# Altium footprint library SMD-RCD 0607.PcbLib: 104 footprints (part 3 of 7)
Each footprint in its own frame and in the unit in brackets; x right, y up, seen from the top. Pads: shape width x height; smd on the part's side, far side on the other; paste and mask are expansions set on the pad; w line width, h text height; cw(c..) or ccw(c..) is an arc to the next point about the centre after c.
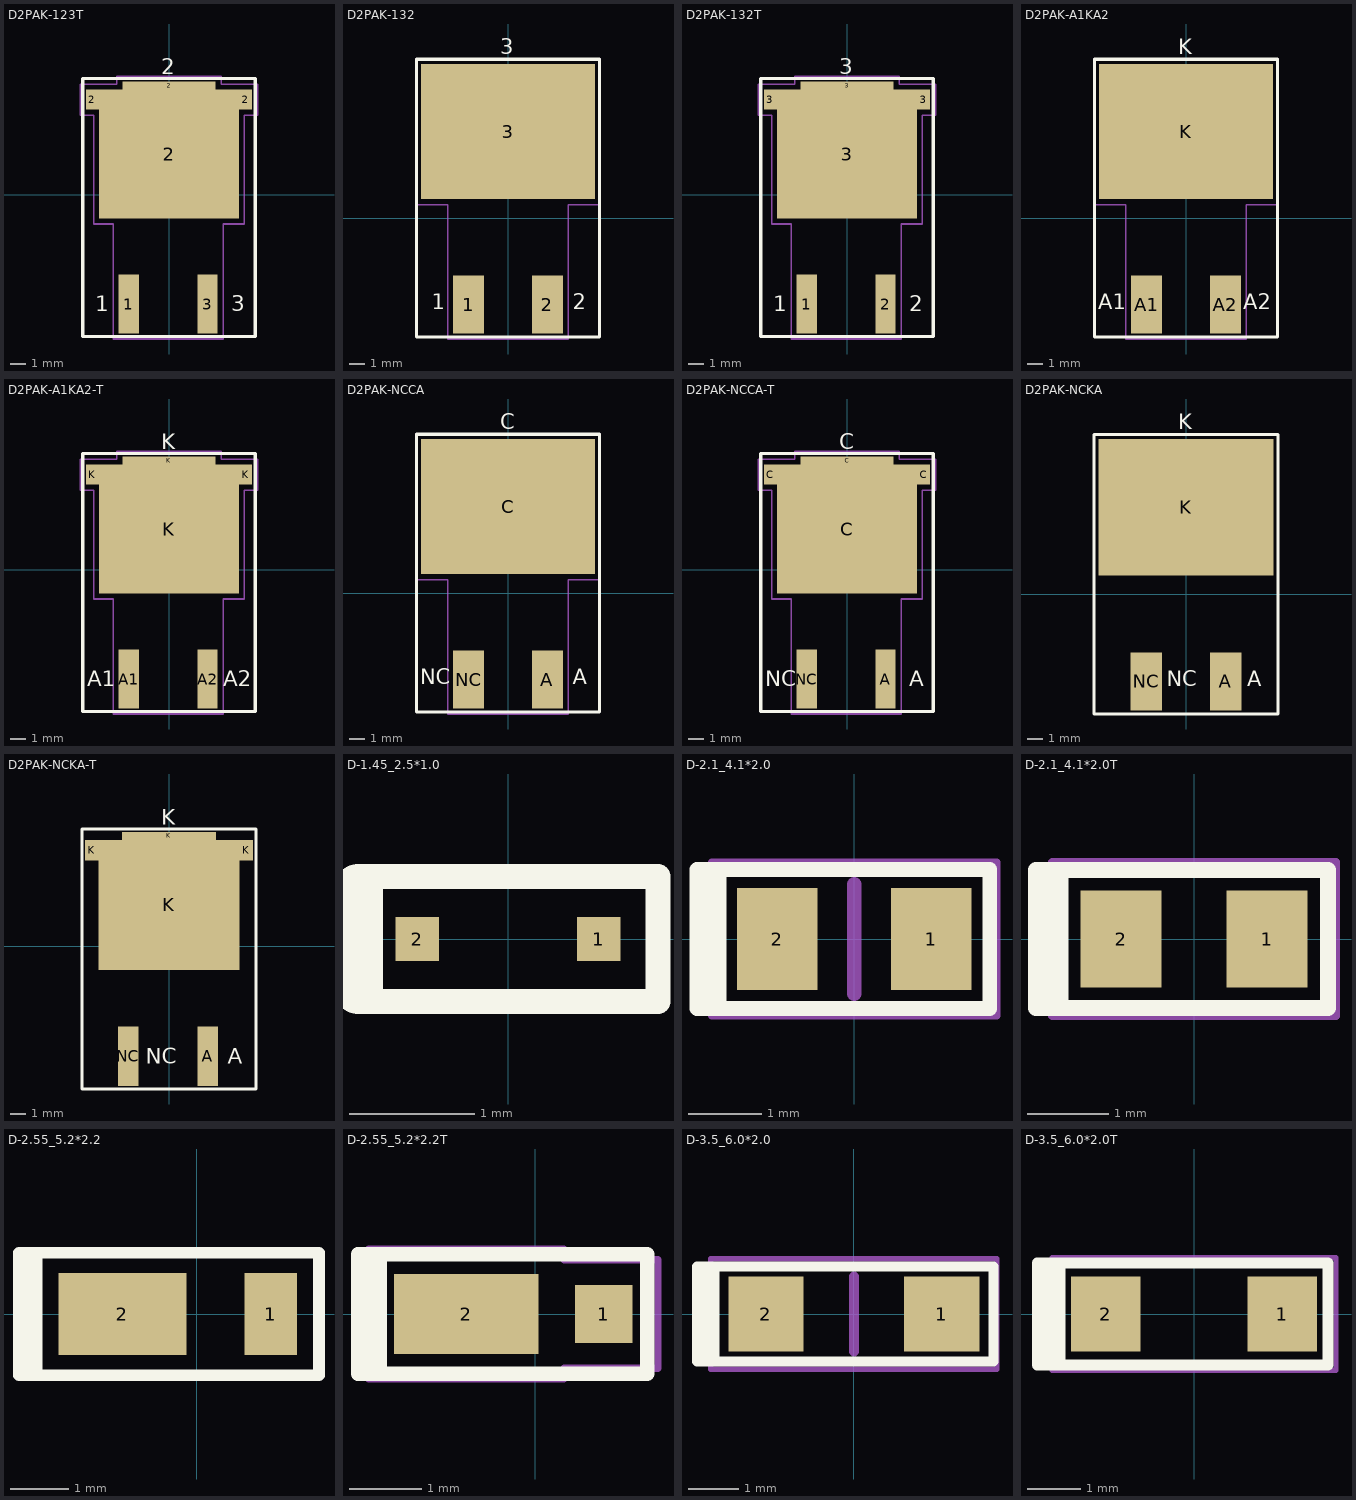
[diagram p2: the footprints below, top view; thin cyan lines are the x and y axes]

## D2PAK-123T [mm]
height 4.83
pads (6):
  rect 1.3x3.8 smd: 1(-2.595,-7.025) 3(2.485,-7.025)
  rect 0.85x1.3 smd: 2(-4.925,6.125) 2(4.925,6.125)
  rect 9x8.3 smd: 2(0,2.625)
  rect 6x0.5 smd: 2(0,7.025)
Top Overlay:
  lines w0.2: -5.55,-9.125 5.55,-9.125 5.55,7.475 -5.55,7.475 -5.55,-9.125
  text "3" at 4,-7.5 h1
  text "1" at -4.75,-7.5 h1
  text "2" at -0.5,7.75 h1
Mechanical 15:
  lines w0.1: -5.7,5.125 -5.7,7.125 -3.35,7.125 -3.35,7.625 3.35,7.625 3.35,7.125 5.7,7.125 5.7,5.125 4.85,5.125 4.85,-1.875 3.485,-1.875 3.485,-9.275 -3.595,-9.275 -3.595,-1.875 -4.85,-1.875 -4.85,5.125 -5.7,5.125

## D2PAK-132 [mm] "CSD10060G"
height 4.83
pads (3):
  rect 2.03x3.81 smd: 1(-2.595,-5.687) 2(2.595,-5.687)
  rect 11.43x8.89 smd: 3(0,5.687)
Top Overlay:
  lines w0.2: -6,-7.812 6,-7.812 6,10.438 -6,10.438 -6,-7.812
  text "2" at 4.25,-6 h1
  text "1" at -5,-6 h1
  text "3" at -0.508,10.767 h1
Mechanical 16:
  lines w0.1: -6.065,0.893 -3.96,0.893 -3.96,-7.943 3.96,-7.943 3.96,0.893 6.065,0.893 6.065,10.483 -6.065,10.483 -6.065,0.893

## D2PAK-132T [mm] "CSD10060G"
height 4.83
pads (6):
  rect 1.3x3.8 smd: 1(-2.595,-7.025) 2(2.485,-7.025)
  rect 0.85x1.3 smd: 3(-4.925,6.125) 3(4.925,6.125)
  rect 9x8.3 smd: 3(0,2.625)
  rect 6x0.5 smd: 3(0,7.025)
Top Overlay:
  lines w0.2: -5.55,-9.125 -5.55,7.475 5.55,7.475 5.55,-9.125 -5.55,-9.125
  text "3" at -0.5,7.75 h1
  text "1" at -4.75,-7.5 h1
  text "2" at 4,-7.5 h1
Mechanical 15:
  lines w0.1: -5.7,5.125 -4.85,5.125 -4.85,-1.875 -3.595,-1.875 -3.595,-9.275 3.485,-9.275 3.485,-1.875 4.85,-1.875 4.85,5.125 5.7,5.125 5.7,7.125 3.35,7.125 3.35,7.625 -3.35,7.625 -3.35,7.125 -5.7,7.125 -5.7,5.125

## D2PAK-A1KA2 [mm]
height 4.83
pads (3):
  rect 2.03x3.81 smd: A1(-2.595,-5.687) A2(2.595,-5.687)
  rect 11.43x8.89 smd: K(0,5.687)
Top Overlay:
  lines w0.2: -6,-7.812 -6,10.438 6,10.438 6,-7.812 -6,-7.812
  text "K" at -0.508,10.767 h1
  text "A1" at -5.75,-6 h1
  text "A2" at 3.75,-6 h1
Mechanical 16:
  lines w0.1: -6.065,0.893 -6.065,10.483 6.065,10.483 6.065,0.893 3.96,0.893 3.96,-7.943 -3.96,-7.943 -3.96,0.893 -6.065,0.893

## D2PAK-A1KA2-T [mm]
height 4.83
pads (6):
  rect 1.3x3.8 smd: A1(-2.595,-7.025) A2(2.485,-7.025)
  rect 0.85x1.3 smd: K(-4.925,6.125) K(4.925,6.125)
  rect 9x8.3 smd: K(0,2.625)
  rect 6x0.5 smd: K(0,7.025)
Top Overlay:
  lines w0.2: -5.55,-9.125 -5.55,7.475 5.55,7.475 5.55,-9.125 -5.55,-9.125
  text "K" at -0.5,7.75 h1
  text "A1" at -5.25,-7.5 h1
  text "A2" at 3.5,-7.5 h1
Mechanical 15:
  lines w0.1: -5.7,5.125 -4.85,5.125 -4.85,-1.875 -3.595,-1.875 -3.595,-9.275 3.485,-9.275 3.485,-1.875 4.85,-1.875 4.85,5.125 5.7,5.125 5.7,7.125 3.35,7.125 3.35,7.625 -3.35,7.625 -3.35,7.125 -5.7,7.125 -5.7,5.125

## D2PAK-NCCA [mm] "­ìD2PAK-CA"
height 4.83
pads (3):
  rect 2.03x3.81 smd: A(2.595,-5.687) NC(-2.595,-5.687)
  rect 11.43x8.89 smd: C(0,5.687)
Top Overlay:
  lines w0.2: -6,-7.812 6,-7.812 6,10.438 -6,10.438 -6,-7.812
  text "A" at 4.25,-6 h1
  text "NC" at -5.75,-6 h1
  text "C" at -0.508,10.767 h1
Mechanical 16:
  lines w0.1: -6.065,0.893 -3.96,0.893 -3.96,-7.943 3.96,-7.943 3.96,0.893 6.065,0.893 6.065,10.483 -6.065,10.483 -6.065,0.893

## D2PAK-NCCA-T [mm]
height 4.83
pads (6):
  rect 1.3x3.8 smd: A(2.485,-7.025) NC(-2.595,-7.025)
  rect 0.85x1.3 smd: C(-4.925,6.125) C(4.925,6.125)
  rect 9x8.3 smd: C(0,2.625)
  rect 6x0.5 smd: C(0,7.025)
Top Overlay:
  lines w0.2: -5.55,-9.125 5.55,-9.125 5.55,7.475 -5.55,7.475 -5.55,-9.125
  text "A" at 4,-7.5 h1
  text "NC" at -5.25,-7.5 h1
  text "C" at -0.5,7.75 h1
Mechanical 15:
  lines w0.1: -5.7,5.125 -5.7,7.125 -3.35,7.125 -3.35,7.625 3.35,7.625 3.35,7.125 5.7,7.125 5.7,5.125 4.85,5.125 4.85,-1.875 3.485,-1.875 3.485,-9.275 -3.595,-9.275 -3.595,-1.875 -4.85,-1.875 -4.85,5.125 -5.7,5.125

## D2PAK-NCKA [mm]
height 4.83
pads (3):
  rect 2.03x3.81 smd: A(2.595,-5.687) NC(-2.595,-5.687)
  rect 11.43x8.89 smd: K(0,5.688)
Top Overlay:
  lines w0.2: -6,-7.812 -6,10.438 6,10.438 6,-7.812 -6,-7.812
  text "K" at -0.508,10.767 h1
  text "NC" at -1.25,-6 h1
  text "A" at 4,-6 h1

## D2PAK-NCKA-T [mm]
height 4.83
pads (6):
  rect 1.3x3.8 smd: A(2.485,-7.025) NC(-2.595,-7.025)
  rect 0.85x1.3 smd: K(-4.925,6.125) K(4.925,6.125)
  rect 9x8.3 smd: K(0,2.625)
  rect 6x0.5 smd: K(0,7.025)
Top Overlay:
  lines w0.2: -5.55,-9.125 -5.55,7.475 5.55,7.475 5.55,-9.125 -5.55,-9.125
  text "K" at -0.5,7.75 h1
  text "NC" at -1.5,-7.5 h1
  text "A" at 3.75,-7.5 h1

## D-1.45_2.5*1.0 [mm]
height 0.7
pads (2):
  rect 0.35x0.35 smd: 1(0.725,0) 2(-0.725,0)
Top Overlay:
  lines w0.2: -1.2,-0.5 1.2,-0.5 1.2,0.5 -1.2,0.5
  lines w0.4: -1.2,-0.4 -1.2,0.4

## D-2.1_4.1*2.0 [mm] "D0805"
height 1.35
pads (2):
  rect 1.1x1.4 smd: 1(1.05,0) 2(-1.05,0)
Top Overlay:
  lines w0.2: -1.95,-0.8 -1.95,0.825 ; -2.15,-0.95 1.85,-0.95 1.85,0.95 -2.15,0.95 -2.15,-0.95 ; -2.05,-0.85 -1.85,-0.85 -1.85,0.85 -2.05,0.85 -2.05,-0.85
Mechanical 9:
  lines w0.2: 0,-0.75 0,0.75
Mechanical 16:
  lines w0.1: -1.95,-1.05 -1.95,1.05 1.95,1.05 1.95,-1.05 -1.95,-1.05

## D-2.1_4.1*2.0T [mm] "D0805"
height 1.35
pads (2):
  rect 1x1.2 smd: 1(0.9,0) 2(-0.9,0)
Top Overlay:
  lines w0.2: -1.75,-0.8 -1.75,0.825 ; -1.95,-0.85 1.65,-0.85 1.65,0.85 -1.95,0.85 -1.95,-0.85 ; -1.85,-0.85 -1.65,-0.85 -1.65,0.85 -1.85,0.85 -1.85,-0.85
Mechanical 15:
  lines w0.1: -1.75,-0.95 -1.75,0.95 1.75,0.95 1.75,-0.95 -1.75,-0.95

## D-2.55_5.2*2.2 [mm] "Vendor PN:DFLT5V0A-7"
height 1
pads (2):
  rect 0.9x1.4 smd: 1(1.275,0)
  rect 2.2x1.4 smd: 2(-1.275,0)
Top Overlay:
  lines w0.2: -2.9,-1.05 -2.9,1.05 ; -2.75,-1.05 -2.75,1.05 ; -3.05,-1.05 -3.05,1.05 2.1,1.05 2.1,-1.05 -3.05,-1.05
Mechanical 15:
  lines w0.1: -2.75,-1.05 -2.75,1.05 2.1,1.05 2.1,-1.05 -2.75,-1.05
Mechanical 16:
  lines w0.1: -2.75,-1.05 -2.75,1.05 2.1,1.05 2.1,-1.05 -2.75,-1.05

## D-2.55_5.2*2.2T [mm] "Micro SMP"
height 0.7
pads (2):
  rect 0.8x0.8 smd: 1(0.95,0)
  rect 2x1.1 smd: 2(-0.95,0)
Top Overlay:
  lines w0.2: -2.3,-0.825 -2.3,0.825 ; -2.15,-0.825 -2.15,0.825 ; -2.45,-0.825 1.55,-0.825 1.55,0.825 -2.45,0.825 -2.45,-0.825
Mechanical 15:
  lines w0.1: -2.3,-0.9 -2.3,0.9 0.4,0.9 0.4,0.75 1.7,0.75 1.7,-0.75 0.4,-0.75 0.4,-0.9 -2.3,-0.9
Mechanical 16:
  lines w0.1: -2.3,-0.9 -2.3,0.9 0.4,0.9 0.4,0.75 1.7,0.75 1.7,-0.75 0.4,-0.75 0.4,-0.9 -2.3,-0.9

## D-3.5_6.0*2.0 [mm] "D1206/LL-34/LLDS/SOD-80"
height 1.6
pads (2):
  rect 1.5x1.5 smd: 1(1.75,0) 2(-1.75,0)
Top Overlay:
  region: -2.7,0.95 -3.101,0.95 -3.101,-0.95 -2.7,-0.95
  lines w0.2: -2.776,-0.95 -2.776,0.95 ; -3.124,-0.95 -2.7,-0.95 2.776,-0.95 2.776,0.95 -2.7,0.95 -3.124,0.95 -3.124,-0.95
Mechanical 9:
  lines w0.2: 0,-0.75 0,0.75
Mechanical 16:
  lines w0.1: -2.85,-1.1 -2.85,1.1 2.85,1.1 2.85,-1.1 -2.85,-1.1

## D-3.5_6.0*2.0T [mm] "D1206/LL-34/LLDS/SOD-80"
height 1.6
pads (2):
  rect 1.3x1.4 smd: 1(1.65,0) 2(-1.65,0)
Top Overlay:
  region: -2.5,0.95 -2.95,0.95 -2.95,-0.95 -2.5,-0.95
  lines w0.2: -2.5,-0.95 -2.5,0.95 ; -2.7,-0.95 -2.925,-0.95 -2.925,0.95 -2.7,0.95 ; -2.7,-0.95 2.5,-0.95 2.5,0.95 -2.7,0.95 ; -2.7,-0.95 -2.7,0.95
Mechanical 15:
  lines w0.1: -2.65,-1.05 -2.65,1.05 2.65,1.05 2.65,-1.05 -2.65,-1.05